# Altium integrated library PowerChip.IntLib: 11 symbols
Pins are listed as number, name and electrical type; pins without a type are passive.

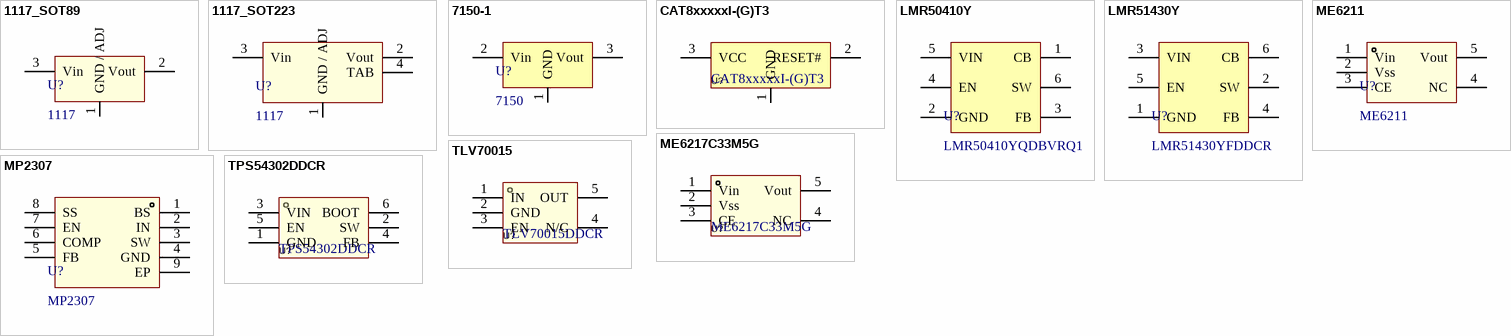
[diagram p0: symbols 1117_SOT89 to TPS54302DDCR]

## 1117_SOT89
designator U?, comment 1117
SOT-89-3
footprint SOT-89-3_L4.5-W2.5-P1.50-LS4.0-BR
pins: 1 GND / ADJ, 2 Vout, 3 Vin

## 1117_SOT223
designator U?, comment 1117
SOT-223-3; Supplier 1: Mouser; Supplier Part Number 1: 926-LM1117MP25NOPB
footprint SOT-223-3 (L6.5-W3.4-P2.30-LS7.0-BR)
pins: 1 GND / ADJ, 2 Vout, 3 Vin, 4 TAB

## 7150-1
designator U?, comment 7150
footprint SOT-89-3_L4.5-W2.5-P1.50-LS4.0-BR
pins: 1 GND, 2 Vin, 3 Vout

## CAT8xxxxxI-(G)T3
designator U?
3-Pin Microprocessor Power Supply Supervisors / − CAT803: Open−Drain Active LOW Reset / − CAT809: Push−Pull Active LOW Reset / − CAT810: Push−Pull Active HIGH Reset; Manufacturer: TI(德州仪器); Name: TLV70015DDCR; Add into BOM: yes; Output Type: 固定; Output Polarity: 正; Number of Outputs: 1; Maximum Input Voltage: 5.5V; Output Voltage: 1.5V; Dropout Voltage: 250mV@(200mA); Quiescent Current (Ground Current): 55uA; Output Current: 200mA; Power Supply Rejection Ratio (PSRR): 68dB@(1kHz); Symbol: TLV70015DDCR; Device: TLV70015DDCR; LCSC Part Name: TLV70015DDCR; Supplier Part: C2865100; Manufacturer Part: TLV70015DDCR; Supplier Footprint: SOT-23-Thin-5; JLCPCB Part Class: Extended Part; Datasheet: https://atta.szlcsc.com/upload/public/pdf/source/20230221/CBA3FAF2ECD8317094AE1D26AA0CA23B.pdf; Supplier: LCSC; Convert to PCB: yes; Operating Temperature: -40℃~+125℃@(Tj)
footprint SOT-23-3_L2.9-W1.3-P1.90-LS2.4-BR
pins: 1 GND, 2 RESET#, 3 VCC

## LMR50410Y
designator U?, comment LMR50410YQDBVRQ1
功能类型:降压型; / 输出类型:可调; / 输入电压:4V~36V; / 输出电压:1V~28V; / 输出电流(最大值):1A; / https://www.ti.com/cn/lit/gpn/lmr50410-q1
footprint SOT-23-6_L2.9-W1.6-P0.95-LS2.8-BR
pins: 1 CB, 2 GND, 3 FB, 4 EN, 5 VIN, 6 SW

## LMR51430Y
designator U?, comment LMR51430YFDDCR
输入电压 4.5V~36V / 输出电压 600mV~34.2V / 输出电流(最大值) 3A / 开关频率 1.1MHz / 工作温度 -40℃~+150℃ / 静态电流(Iq) 40uA
footprint SOT-23-6_L2.9-W1.6-P0.95-LS2.9-BL (Footprint not found)
pins: 1 GND, 2 SW, 3 VIN, 4 FB, 5 EN, 6 CB

## ME6211
designator U?
SOT23-5
footprint SOT-23-5_L3.0-W1.7-P0.95-LS2.8-BR
pins: 1 Vin, 2 Vss, 3 CE, 4 NC, 5 Vout

## ME6217C33M5G
designator U?
Manufacturer: MICRONE(南京微盟); Add into BOM: yes; Output Type: 固定; Output Polarity: 正; Number of Outputs: 1; Maximum Input Voltage: 7V; Output Voltage: 3.3V; Dropout Voltage: 180mV@(300mA); Output Current: 800mA; Power Supply Rejection Ratio (PSRR): 65dB@(1kHz); Name: ME6217C33M5G; Symbol: ME6217C33M5G; Device: ME6217C33M5G; LCSC Part Name: ME6217C33M5G; Supplier Part: C427602; Manufacturer Part: ME6217C33M5G; Supplier Footprint: SOT-23-5; JLCPCB Part Class: Extended Part; Datasheet: https://atta.szlcsc.com/upload/public/pdf/source/20190910/C427602_D4B9162A2E9D9EF57C60010DFDECEF37.pdf; Supplier: LCSC; Convert to PCB: yes; Quiescent Current (Ground Current): -
footprint SOT-23-5_L3.0-W1.7-P0.95-LS2.8-BR
pins: 1 Vin, 2 Vss, 3 CE, 4 NC, 5 Vout

## MP2307
designator U?
footprint SOIC-EP-8 (MP2307)
pins: 1 BS, 2 IN, 3 SW, 4 GND, 5 FB, 6 COMP, 7 EN, 8 SS, 9 EP

## TLV70015
designator U?, comment TLV70015DDCR
Manufacturer: TI(德州仪器); Add into BOM: yes; Output Type: 固定; Output Polarity: 正; Number of Outputs: 1; Maximum Input Voltage: 5.5V; Output Voltage: 1.5V; Dropout Voltage: 250mV@(200mA); Quiescent Current (Ground Current): 55uA; Output Current: 200mA; Power Supply Rejection Ratio (PSRR): 68dB@(1kHz); Name: TLV70015DDCR; Symbol: TLV70015DDCR; Device: TLV70015DDCR; LCSC Part Name: TLV70015DDCR; Supplier Part: C2865100; Manufacturer Part: TLV70015DDCR; Supplier Footprint: SOT-23-Thin-5; JLCPCB Part Class: Extended Part; Datasheet: https://atta.szlcsc.com/upload/public/pdf/source/20230221/CBA3FAF2ECD8317094AE1D26AA0CA23B.pdf; Supplier: LCSC; Convert to PCB: yes; Operating Temperature: -40℃~+125℃@(Tj)
footprint SOT-23-5_L2.9-W1.6-P0.95-LS2.8-BR
3D model SOT-23-5_L2.9-W1.6-P0.95-LS2.8-BR
pins: 1 IN, 2 GND, 3 EN, 4 N/C, 5 OUT

## TPS54302DDCR
designator U?
Manufacturer: TI(德州仪器); Symbol: TPS54302DDCR_C311983; Add into BOM: yes; Function: 降压型; Synchronous Rectification: 是; Output Type: 可调; Number of Outputs: 1; Topology: 降压式; Input Voltage: 4.5V~28V; Output Voltage: 596mV~28V; Output Current (Max): 3A; Switching Frequency: 400kHz; Name: TPS54302DDCR; Device: TPS54302DDCR; LCSC Part Name: 降压型 输入4.5V~28V 输出596mV~28V 3A; Supplier Part: C311983; Manufacturer Part: TPS54302DDCR; Supplier Footprint: TSOT-23-6; JLCPCB Part Class: Extended Part; Datasheet: https://atta.szlcsc.com/upload/public/pdf/source/20181023/C311983_0948EE70BFAD2011B492BD3F4CEA709D.pdf; Supplier: LCSC; Convert to PCB: yes; Operating Temperature: -40℃~+125℃@(TJ)
footprint SOT-23-6_L2.9-W1.6-P0.95-LS2.8-BL
3D model SOT-23-6_L2.9-W1.6-H1.5-LS2.8-P0.95
pins: 1 GND, 2 SW, 3 VIN, 4 FB, 5 EN, 6 BOOT